# Altium footprint library SparkFun-Boards.PCBLIB: 38 footprints (part 2 of 3)
Each footprint in its own frame and in the unit in brackets; x right, y up, seen from the top. Pads: shape width x height; smd on the part's side, far side on the other; paste and mask are expansions set on the pad; w line width, h text height; cw(c..) or ccw(c..) is an arc to the next point about the centre after c.
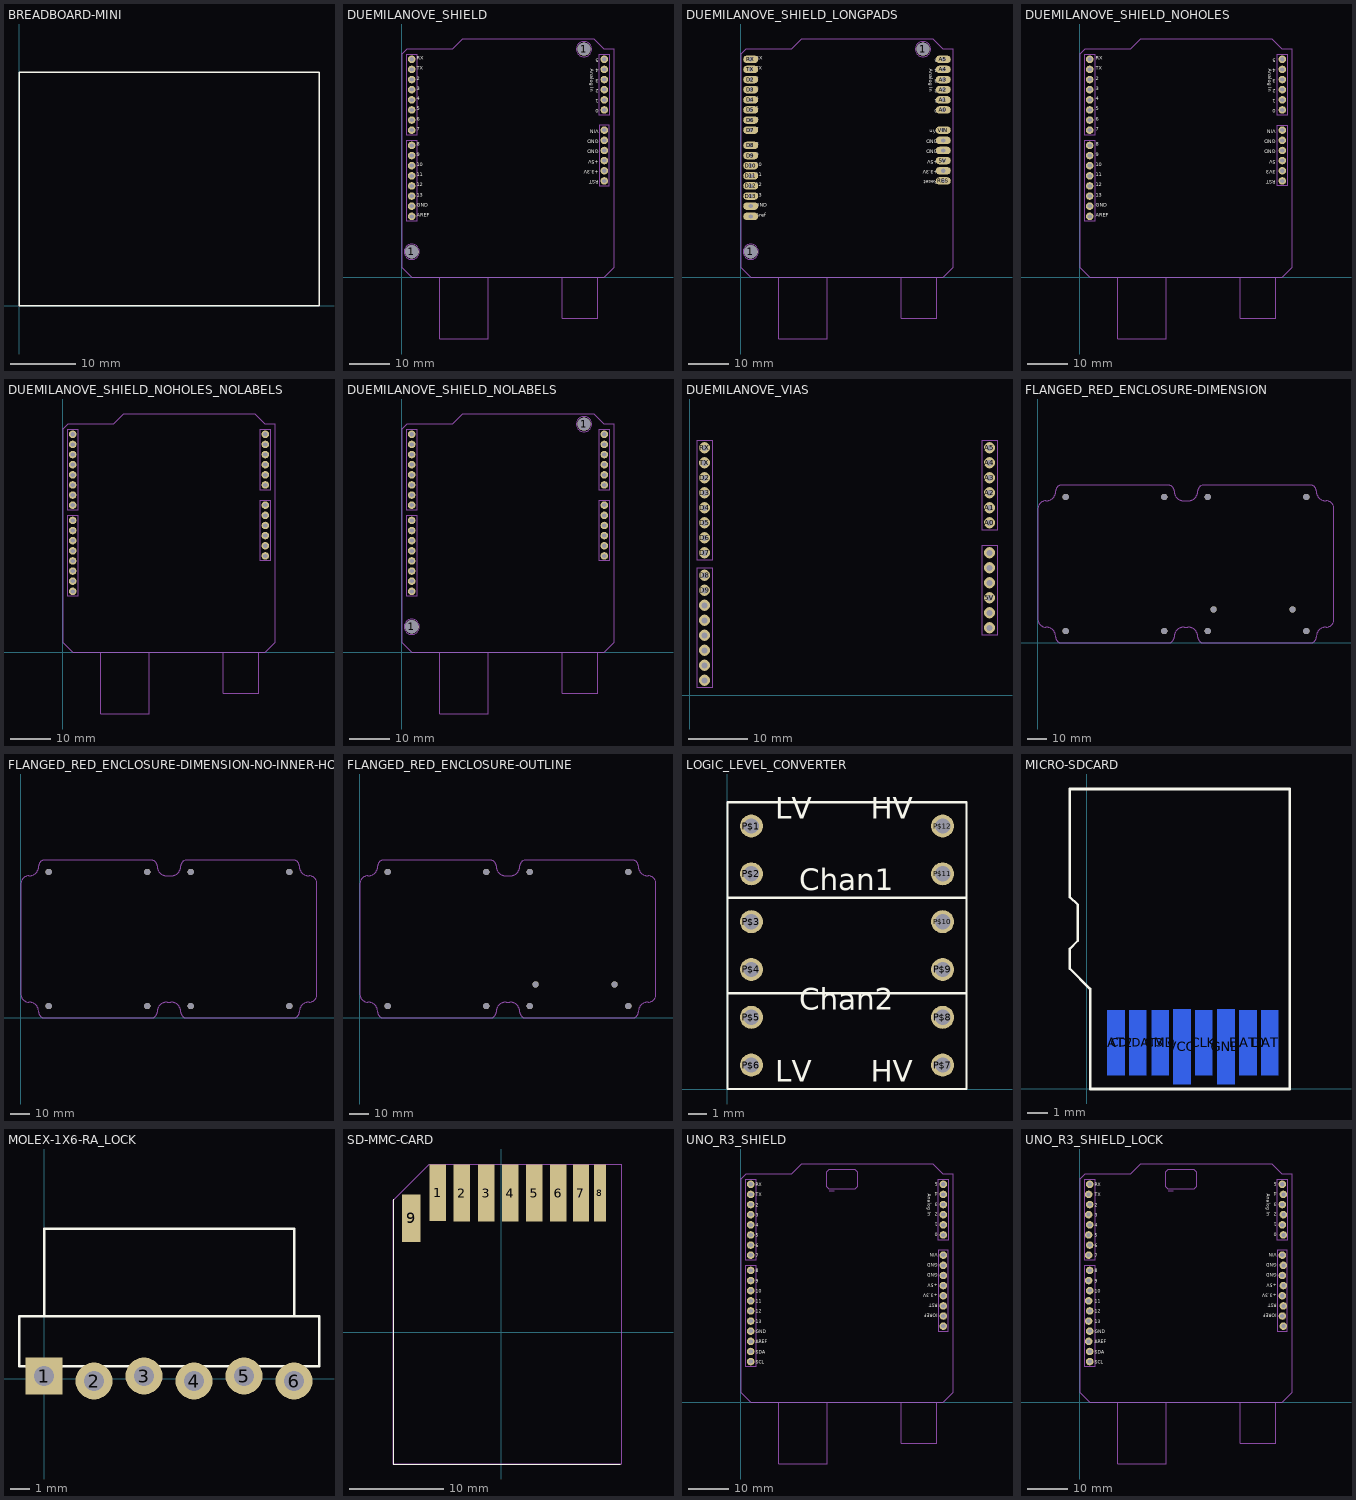
[diagram p1: the footprints below, top view; thin cyan lines are the x and y axes]

## BREADBOARD-MINI [mil]
Top Overlay:
  lines w8: 0,0 0,1400 1800,1400 1800,0 0,0

## DUEMILANOVE_SHIELD [mil]
pads (30):
  round 130 hole 130: 1(100,250) 1(1800,2250)
  round 74 hole 40: 3.3V(2000,1050) 5V(2000,1150) A0(2000,1650) A1(2000,1750) A2(2000,1850) A3(2000,1950) A4(2000,2050) A5(2000,2150) AREF(100,600) D2(100,1950) D3(100,1850) D4(100,1750) D5(100,1650) D6(100,1550) D7(100,1450) D8(100,1300) D9(100,1200) D10(100,1100) D11(100,1000) D12(100,900) D13(100,800) GND@0(2000,1250) GND@1(2000,1350) GND@2(100,700) RES(2000,950) RX(100,2150) TX(100,2050) VIN(2000,1450)
Top Overlay:
  text "GND" at 1946,1270 h62
  text "GND" at 1946,1370 h62
  text "+5V" at 1946,1170 h62
  text "RST" at 1946,970 h62
  text "VIN" at 1946,1470 h62
  text "+3.3V" at 1946,1070 h62
  text "0" at 1946,1670 h62
  text "1" at 1946,1770 h62
  text "2" at 1946,1870 h62
  text "3" at 1946,1970 h62
  text "4" at 1946,2070 h62
  text "5" at 1946,2170 h62
  text "Analog In" at 1846,2055 h62
  text "GND" at 150,680 h62
  text "13" at 150,780 h62
  text "12" at 150,880 h62
  text "11" at 150,980 h62
  text "AREF" at 150,580 h62
  text "10" at 150,1080 h62
  text "9" at 150,1180 h62
  text "8" at 150,1280 h62
  text "7" at 150,1430 h62
  text "6" at 150,1530 h62
  text "5" at 150,1630 h62
  text "4" at 150,1730 h62
  text "3" at 150,1830 h62
  text "2" at 150,1930 h62
  text "TX" at 150,2030 h62
  text "RX" at 150,2130 h62
Mechanical 8:
  circle w5: c100,250 r75
  circle w5: c1800,2250 r75
Mechanical 9:
  circle w5: c100,250 r75
  circle w5: c1800,2250 r75
Mechanical 16:
  lines w5: 50,550 150,550 150,1350 50,1350 50,550 ; 50,1400 150,1400 150,2200 50,2200 50,1400 ; 1950,900 2050,900 2050,1500 1950,1500 1950,900 ; 1950,1600 2050,1600 2050,2200 1950,2200 1950,1600
  lines w10: 1583,-3.94 1583,-405.51 1938,-405.51 1938,-3.94 ; 375,0 100,0 0,100 0,2200 50,2250 500,2250 600,2350 1900,2350 2000,2250 2100,2250 2100,100 2000,0 855,0 ; 375,0 855,0 ; 375,0 375,-610.24 855,-610.24 855,0

## DUEMILANOVE_SHIELD_LONGPADS [mil]
pads (30):
  round 130 hole 130: 1(100,250) 1(1800,2250)
  oval 148x74 hole 40: 3.3V(2000,1050) 5V(2000,1150) A0(2000,1650) A1(2000,1750) A2(2000,1850) A3(2000,1950) A4(2000,2050) A5(2000,2150) AREF(100,600) D2(100,1950) D3(100,1850) D4(100,1750) D5(100,1650) D6(100,1550) D7(100,1450) D8(100,1300) D9(100,1200) D10(100,1100) D11(100,1000) D12(100,900) D13(100,800) GND@0(2000,1250) GND@1(2000,1350) GND@2(100,700) RES(2000,950) RX(100,2150) TX(100,2050) VIN(2000,1450)
Top Overlay:
  text "GND" at 1946,1270 h62
  text "GND" at 1946,1370 h62
  text "+5V" at 1946,1170 h62
  text "Reset" at 1946,970 h62
  text "Vin" at 1946,1470 h62
  text "+3.3V" at 1946,1070 h62
  text "0" at 1946,1670 h62
  text "1" at 1946,1770 h62
  text "2" at 1946,1870 h62
  text "3" at 1946,1970 h62
  text "4" at 1946,2070 h62
  text "5" at 1946,2170 h62
  text "Analog In" at 1846,2055 h62
  text "GND" at 150,680 h62
  text "13" at 150,780 h62
  text "12" at 150,880 h62
  text "11" at 150,980 h62
  text "Aref" at 150,580 h62
  text "10" at 150,1080 h62
  text "9" at 150,1180 h62
  text "8" at 150,1280 h62
  text "7" at 150,1430 h62
  text "6" at 150,1530 h62
  text "5" at 150,1630 h62
  text "4" at 150,1730 h62
  text "3" at 150,1830 h62
  text "2" at 150,1930 h62
  text "TX" at 150,2030 h62
  text "RX" at 150,2130 h62
Mechanical 8:
  circle w5: c100,250 r75
  circle w5: c1800,2250 r75
Mechanical 9:
  circle w5: c100,250 r75
  circle w5: c1800,2250 r75
Mechanical 16:
  lines w10: 1583,-3.94 1583,-405.51 1938,-405.51 1938,-3.94 ; 375,0 100,0 0,100 0,2200 50,2250 500,2250 600,2350 1900,2350 2000,2250 2100,2250 2100,100 2000,0 855,0 ; 375,0 855,0 ; 375,0 375,-610.24 855,-610.24 855,0

## DUEMILANOVE_SHIELD_NOHOLES [mil]
pads (28):
  round 74 hole 40: 3.3V(2000,1050) 5V(2000,1150) A0(2000,1650) A1(2000,1750) A2(2000,1850) A3(2000,1950) A4(2000,2050) A5(2000,2150) AREF(100,600) D2(100,1950) D3(100,1850) D4(100,1750) D5(100,1650) D6(100,1550) D7(100,1450) D8(100,1300) D9(100,1200) D10(100,1100) D11(100,1000) D12(100,900) D13(100,800) GND@0(2000,1250) GND@1(2000,1350) GND@2(100,700) RES(2000,950) RX(100,2150) TX(100,2050) VIN(2000,1450)
Top Overlay:
  text "GND" at 1935,1370 h62
  text "5V" at 1935,1170 h62
  text "RST" at 1935,970 h62
  text "VIN" at 1936,1470 h62
  text "3V3" at 1935,1070 h62
  text "0" at 1936,1670 h62
  text "1" at 1936,1770 h62
  text "2" at 1936,1870 h62
  text "3" at 1936,1970 h62
  text "4" at 1936,2070 h62
  text "5" at 1936,2170 h62
  text "Analog In" at 1846,2055 h62
  text "GND" at 160,680 h62
  text "13" at 160,780 h62
  text "12" at 160,880 h62
  text "11" at 160,980 h62
  text "AREF" at 160,580 h62
  text "10" at 160,1080 h62
  text "9" at 160,1180 h62
  text "8" at 160,1280 h62
  text "7" at 160,1430 h62
  text "6" at 160,1530 h62
  text "5" at 160,1630 h62
  text "4" at 160,1730 h62
  text "3" at 160,1830 h62
  text "2" at 160,1930 h62
  text "TX" at 160,2030 h62
  text "RX" at 160,2130 h62
  text "GND" at 1935,1270 h62
Mechanical 16:
  lines w5: 50,550 150,550 150,1350 50,1350 50,550 ; 50,1400 150,1400 150,2200 50,2200 50,1400 ; 1950,900 2050,900 2050,1500 1950,1500 1950,900 ; 1950,1600 2050,1600 2050,2200 1950,2200 1950,1600
  lines w10: 1583,-3.94 1583,-405.51 1938,-405.51 1938,-3.94 ; 375,0 100,0 0,100 0,2200 50,2250 500,2250 600,2350 1900,2350 2000,2250 2100,2250 2100,100 2000,0 855,0 ; 375,0 855,0 ; 375,0 375,-610.24 855,-610.24 855,0

## DUEMILANOVE_SHIELD_NOHOLES_NOLABELS [mil]
pads (28):
  round 74 hole 40: 3.3V(2000,1050) 5V(2000,1150) A0(2000,1650) A1(2000,1750) A2(2000,1850) A3(2000,1950) A4(2000,2050) A5(2000,2150) AREF(100,600) D2(100,1950) D3(100,1850) D4(100,1750) D5(100,1650) D6(100,1550) D7(100,1450) D8(100,1300) D9(100,1200) D10(100,1100) D11(100,1000) D12(100,900) D13(100,800) GND@0(2000,1250) GND@1(2000,1350) GND@2(100,700) RES(2000,950) RX(100,2150) TX(100,2050) VIN(2000,1450)
Mechanical 16:
  lines w5: 50,550 150,550 150,1350 50,1350 50,550 ; 50,1400 150,1400 150,2200 50,2200 50,1400 ; 1950,900 2050,900 2050,1500 1950,1500 1950,900 ; 1950,1600 2050,1600 2050,2200 1950,2200 1950,1600
  lines w10: 1583,-3.94 1583,-405.51 1938,-405.51 1938,-3.94 ; 375,0 100,0 0,100 0,2200 50,2250 500,2250 600,2350 1900,2350 2000,2250 2100,2250 2100,100 2000,0 855,0 ; 375,0 855,0 ; 375,0 375,-610.24 855,-610.24 855,0
  text "GND" at 1935,1370 h62
  text "5V" at 1935,1170 h62
  text "RST" at 1935,970 h62
  text "VIN" at 1936,1470 h62
  text "3V3" at 1935,1070 h62
  text "0" at 1936,1670 h62
  text "1" at 1936,1770 h62
  text "2" at 1936,1870 h62
  text "3" at 1936,1970 h62
  text "4" at 1936,2070 h62
  text "5" at 1936,2170 h62
  text "Analog In" at 1846,2055 h62
  text "GND" at 160,680 h62
  text "13" at 160,780 h62
  text "12" at 160,880 h62
  text "11" at 160,980 h62
  text "AREF" at 160,580 h62
  text "10" at 160,1080 h62
  text "9" at 160,1180 h62
  text "8" at 160,1280 h62
  text "7" at 160,1430 h62
  text "6" at 160,1530 h62
  text "5" at 160,1630 h62
  text "4" at 160,1730 h62
  text "3" at 160,1830 h62
  text "2" at 160,1930 h62
  text "TX" at 160,2030 h62
  text "RX" at 160,2130 h62
  text "GND" at 1935,1270 h62

## DUEMILANOVE_SHIELD_NOLABELS [mil]
pads (30):
  round 130 hole 130: 1(100,250) 1(1800,2250)
  round 74 hole 40: 3.3V(2000,1050) 5V(2000,1150) A0(2000,1650) A1(2000,1750) A2(2000,1850) A3(2000,1950) A4(2000,2050) A5(2000,2150) AREF(100,600) D2(100,1950) D3(100,1850) D4(100,1750) D5(100,1650) D6(100,1550) D7(100,1450) D8(100,1300) D9(100,1200) D10(100,1100) D11(100,1000) D12(100,900) D13(100,800) GND@0(2000,1250) GND@1(2000,1350) GND@2(100,700) RES(2000,950) RX(100,2150) TX(100,2050) VIN(2000,1450)
Mechanical 8:
  circle w5: c100,250 r75
  circle w5: c1800,2250 r75
Mechanical 9:
  circle w5: c100,250 r75
  circle w5: c1800,2250 r75
Mechanical 16:
  lines w5: 50,550 150,550 150,1350 50,1350 50,550 ; 50,1400 150,1400 150,2200 50,2200 50,1400 ; 1950,900 2050,900 2050,1500 1950,1500 1950,900 ; 1950,1600 2050,1600 2050,2200 1950,2200 1950,1600
  lines w10: 1583,-3.94 1583,-405.51 1938,-405.51 1938,-3.94 ; 375,0 100,0 0,100 0,2200 50,2250 500,2250 600,2350 1900,2350 2000,2250 2100,2250 2100,100 2000,0 855,0 ; 375,0 855,0 ; 375,0 375,-610.24 855,-610.24 855,0
  text "GND" at 1941,1270 h62
  text "GND" at 1941,1370 h62
  text "5V" at 1941,1170 h62
  text "RST" at 1941,970 h62
  text "VIN" at 1941,1470 h62
  text "3.3V" at 1941,1070 h62
  text "0" at 1941,1670 h62
  text "1" at 1941,1770 h62
  text "2" at 1941,1870 h62
  text "3" at 1941,1970 h62
  text "4" at 1941,2070 h62
  text "5" at 1941,2170 h62
  text "Analog In" at 1841,2055 h62
  text "GND" at 155,680 h62
  text "13" at 155,780 h62
  text "12" at 155,880 h62
  text "11" at 155,980 h62
  text "AREF" at 155,580 h62
  text "10" at 155,1080 h62
  text "9" at 155,1180 h62
  text "8" at 155,1280 h62
  text "7" at 155,1430 h62
  text "6" at 155,1530 h62
  text "5" at 155,1630 h62
  text "4" at 155,1730 h62
  text "3" at 155,1830 h62
  text "2" at 155,1930 h62
  text "TX" at 155,2030 h62
  text "RX" at 155,2130 h62

## DUEMILANOVE_VIAS [mil]
pads (28):
  round 74 hole 40: 3.3V(2000,550) 5V(2000,650) A0(2000,1150) A1(2000,1250) A2(2000,1350) A3(2000,1450) A4(2000,1550) A5(2000,1650) AREF(100,100) D2(100,1450) D3(100,1350) D4(100,1250) D5(100,1150) D6(100,1050) D7(100,950) D8(100,800) D9(100,700) D10(100,600) D11(100,500) D12(100,400) D13(100,300) GND@0(2000,750) GND@1(2000,850) GND@2(100,200) RES(2000,450) RX(100,1650) TX(100,1550) VIN(2000,950)
Mechanical 16:
  lines w5: 50,50 150,50 150,850 50,850 50,50 ; 50,900 150,900 150,1700 50,1700 50,900 ; 1950,400 2050,400 2050,1000 1950,1000 1950,400 ; 1950,1100 2050,1100 2050,1700 1950,1700 1950,1100
  text "GND" at 1958,770 h62
  text "GND" at 1958,870 h62
  text "+5V" at 1958,670 h62
  text "Reset" at 1958,470 h62
  text "Vin" at 1958,970 h62
  text "+3.3V" at 1958,570 h62
  text "0" at 1958,1170 h62
  text "1" at 1958,1270 h62
  text "2" at 1958,1370 h62
  text "3" at 1958,1470 h62
  text "4" at 1958,1570 h62
  text "5" at 1958,1670 h62
  text "Analog In" at 1858,1555 h62
  text "GND" at 150,180 h62
  text "13" at 150,280 h62
  text "12" at 150,380 h62
  text "11" at 150,480 h62
  text "Aref" at 150,80 h62
  text "10" at 150,580 h62
  text "9" at 150,680 h62
  text "8" at 150,780 h62
  text "7" at 150,930 h62
  text "6" at 150,1030 h62
  text "5" at 150,1130 h62
  text "4" at 150,1230 h62
  text "3" at 150,1330 h62
  text "2" at 150,1430 h62
  text "TX" at 150,1530 h62
  text "RX" at 150,1630 h62
  text "PWM" at 269,480 h62
  text "PWM" at 269,580 h62
  text "PWM" at 269,680 h62
  text "PWM" at 269,1030 h62
  text "PWM" at 269,1130 h62
  text "PWM" at 269,1330 h62

## FLANGED_RED_ENCLOSURE-DIMENSION [mil]
pads (10):
  round 125 hole 125: 1(552,237) 1(552,2914) 1(2520,237) 1(2520,2914) 1(3386,237) 1(3386,2914) 1(3504,670) 1(5079,670) 1(5355,237) 1(5355,2914)
Mechanical 13:
  lines w5: 0,473 0,2678 cw(c157.5,2677.5) 158,2835 ccw(c158,3032) 355,3032 cw(c473,3032) 473,3150 2599,3150 cw(c2599,3032) 2717,3032 ccw(c2914,3032) 2914,2835 2993,2835 ccw(c2992.5,3031.5) 3189,3032 cw(c3307.5,3031.5) 3308,3150 5434,3150 cw(c5434,3032) 5552,3032 ccw(c5749,3032) 5749,2835 cw(c5749,2678) 5906,2678 5906,473 cw(c5748.5,472.5) 5749,315 ccw(c5748.5,118.5) 5552,119 cw(c5433.5,118.5) 5434,0 3308,0 cw(c3308,119) 3189,119 ccw(c2993,119) 2993,315 2914,315 ccw(c2913.5,118.5) 2717,119 cw(c2598.5,118.5) 2599,0 473,0 cw(c473.5,118.5) 355,119 ccw(c158.5,118.5) 158,315 cw(c158,473) 0,473

## FLANGED_RED_ENCLOSURE-DIMENSION-NO-INNER-HOLES [mil]
pads (8):
  round 125 hole 125: 1(552,237) 1(552,2914) 1(2520,237) 1(2520,2914) 1(3386,237) 1(3386,2914) 1(5355,237) 1(5355,2914)
Mechanical 1:
  lines w8: 0,473 0,2678 cw(c157.5,2677.5) 158,2835 ccw(c158,3032) 355,3032 cw(c473,3032) 473,3150 2599,3150 cw(c2599,3032) 2717,3032 ccw(c2914,3032) 2914,2835 2993,2835 ccw(c2992.5,3031.5) 3189,3032 cw(c3307.5,3031.5) 3308,3150 5434,3150 cw(c5434,3032) 5552,3032 ccw(c5749,3032) 5749,2835 cw(c5749,2678) 5906,2678 5906,473 cw(c5748.5,472.5) 5749,315 ccw(c5748.5,118.5) 5552,119 cw(c5433.5,118.5) 5434,0 3308,0 cw(c3308,119) 3189,119 ccw(c2993,119) 2993,315 2914,315 ccw(c2913.5,118.5) 2717,119 cw(c2598.5,118.5) 2599,0 473,0 cw(c473.5,118.5) 355,119 ccw(c158.5,118.5) 158,315 cw(c158,473) 0,473

## FLANGED_RED_ENCLOSURE-OUTLINE [mil]
pads (10):
  round 125 hole 125: 1(552,237) 1(552,2914) 1(2520,237) 1(2520,2914) 1(3386,237) 1(3386,2914) 1(3504,670) 1(5079,670) 1(5355,237) 1(5355,2914)
Mechanical 1:
  lines w8: 0,473 0,2678 cw(c157.5,2677.5) 158,2835 ccw(c158,3032) 355,3032 cw(c473,3032) 473,3150 2599,3150 cw(c2599,3032) 2717,3032 ccw(c2914,3032) 2914,2835 2993,2835 ccw(c2992.5,3031.5) 3189,3032 cw(c3307.5,3031.5) 3308,3150 5434,3150 cw(c5434,3032) 5552,3032 ccw(c5749,3032) 5749,2835 cw(c5749,2678) 5906,2678 5906,473 cw(c5748.5,472.5) 5749,315 ccw(c5748.5,118.5) 5552,119 cw(c5433.5,118.5) 5434,0 3308,0 cw(c3308,119) 3189,119 ccw(c2993,119) 2993,315 2914,315 ccw(c2913.5,118.5) 2717,119 cw(c2598.5,118.5) 2599,0 473,0 cw(c473.5,118.5) 355,119 ccw(c158.5,118.5) 158,315 cw(c158,473) 0,473

## LOGIC_LEVEL_CONVERTER [mil]
pads (12):
  round 48 hole 32: P$1(50,550) P$2(50,450) P$3(50,350) P$4(50,250) P$5(50,150) P$6(50,50) P$7(450,50) P$8(450,150) P$9(450,250) P$10(450,350) P$11(450,450) P$12(450,550)
Top Overlay:
  lines w5: 0,200 0,0 500,0 500,200 ; 0,200 0,400 ; 0,200 500,200 ; 0,400 0,600 500,600 500,400 ; 0,400 500,400 ; 500,200 500,400
  text "Chan1" at 150,400 h77.5
  text "Chan2" at 150,150 h77.5
  text "LV" at 100,550 h77.5
  text "LV" at 100,0 h77.5
  text "HV" at 300,550 h77.5
  text "HV" at 300,0 h77.5

## MICRO-SDCARD [mil]
pads (8):
  rect 34x128 smd far side: CD/DAT3(101,91) CLK(231,91) CMD(145,91) DAT0(318,91) DAT1(361,91) DAT2(58,91)
  rect 34x148 smd far side: GND(275,83) VCC(188,83)
Top Overlay:
  lines w5: -33.07,237 -33.07,276 -17.32,292 -17.32,363 -33.07,378 -33.07,591 400,591 400,0 7,0 7,197 -33.07,237

## MOLEX-1X6-RA_LOCK [mil]
pads (6):
  rect 74x74 hole 40: 1(0,5)
  round 74 hole 40: 2(100,-5) 3(200,5) 4(300,-5) 5(400,5) 6(500,-5)
Top Overlay:
  lines w5: 0,125 500,125 ; 0,125 -50,125 -50,25 550,25 550,125 500,125 ; 0,125 0,300 500,300 500,125

## SD-MMC-CARD [mil]
pads (9):
  rect 69x237 smd: 1(-265.54,580) 2(-165.16,579) 3(-62.99,579) 4(37,579) 5(137,579) 6(238,579)
  rect 65x237 smd: 7(332,579)
  rect 50x237 smd: 8(411,579)
  rect 79x197 smd: 9(-375.2,474)
Top Overlay:
  lines w5: -450,553 -450,-550 495,-550
Mechanical 16:
  lines w5: -450,-550 -450,550 -300,700 500,700 500,-550 -450,-550

## UNO_R3_SHIELD [mil]
pads (32):
  round 74 hole 40: 3.3V(2000,1050) 5V(2000,1150) A0(2000,1650) A1(2000,1750) A2(2000,1850) A3(2000,1950) A4(2000,2050) A5(2000,2150) AREF(100,600) D2(100,1950) D3(100,1850) D4(100,1750) D5(100,1650) D6(100,1550) D7(100,1450) D8(100,1300) D9(100,1200) D10(100,1100) D11(100,1000) D12(100,900) D13(100,800) GND@0(2000,1250) GND@1(2000,1350) GND@2(100,700) IOREF(2000,850) NC(2000,750) RES(2000,950) RX(100,2150) SCL(100,400) SDA(100,500) TX(100,2050) VIN(2000,1450)
Top Overlay:
  text "GND" at 1946,1270 h34
  text "GND" at 1946,1370 h34
  text "+5V" at 1946,1170 h34
  text "RST" at 1946,970 h34
  text "VIN" at 1946,1470 h34
  text "+3.3V" at 1946,1070 h34
  text "0" at 1946,1670 h34
  text "1" at 1946,1770 h34
  text "2" at 1946,1870 h34
  text "3" at 1946,1970 h34
  text "4" at 1946,2070 h34
  text "5" at 1946,2170 h34
  text "Analog In" at 1846,2055 h34
  text "GND" at 150,680 h34
  text "13" at 150,780 h34
  text "12" at 150,880 h34
  text "11" at 150,980 h34
  text "AREF" at 150,580 h34
  text "10" at 150,1080 h34
  text "9" at 150,1180 h34
  text "8" at 150,1280 h34
  text "7" at 150,1430 h34
  text "6" at 150,1530 h34
  text "5" at 150,1630 h34
  text "4" at 150,1730 h34
  text "3" at 150,1830 h34
  text "2" at 150,1930 h34
  text "TX" at 150,2030 h34
  text "RX" at 150,2130 h34
  text "SDA" at 150,480 h34
  text "SCL" at 150,380 h34
  text "IOREF" at 1946,870 h34
Mechanical 16:
  lines w5: 50,350 150,350 150,1350 50,1350 50,350 ; 50,1400 150,1400 150,2200 50,2200 50,1400 ; 1950,700 2050,700 2050,1500 1950,1500 1950,700 ; 1950,1600 2050,1600 2050,2200 1950,2200 1950,1600
  lines w8: 875,2080 925,2080
  lines w10: 1583,-3.94 1583,-405.51 1938,-405.51 1938,-3.94 ; 375,0 100,0 0,100 0,2200 50,2250 500,2250 600,2350 1900,2350 2000,2250 2100,2250 2100,100 2000,0 855,0 ; 375,0 855,0 ; 375,0 375,-610.24 855,-610.24 855,0 ; 850,2125 875,2100 1125,2100 1150,2125 1150,2275 1125,2300 875,2300 850,2275 850,2125
  text "RST" at 1075,2065 h17
  text "ISP" at 980,2190 h17

## UNO_R3_SHIELD_LOCK [mil]
pads (32):
  round 74 hole 40: 3.3V(2000,1050) 5V(2010,1150) A0(2010,1650) A1(2000,1750) A2(2010,1850) A3(2000,1950) A4(2010,2050) A5(2000,2150) AREF(90,600) D2(100,1950) D3(90,1850) D4(100,1750) D5(90,1650) D6(100,1550) D7(90,1450) D8(100,1300) D9(90,1200) D10(100,1100) D11(90,1000) D12(100,900) D13(90,800) GND@0(2000,1250) GND@1(2010,1350) GND@2(100,700) IOREF(2000,850) NC(2010,750) RES(2010,950) RX(100,2150) SCL(100,400) SDA(100,500) TX(90,2050) VIN(2000,1450)
Top Overlay:
  text "GND" at 1946,1270 h34
  text "GND" at 1946,1370 h34
  text "+5V" at 1946,1170 h34
  text "RST" at 1946,970 h34
  text "VIN" at 1946,1470 h34
  text "+3.3V" at 1946,1070 h34
  text "0" at 1946,1670 h34
  text "1" at 1946,1770 h34
  text "2" at 1946,1870 h34
  text "3" at 1946,1970 h34
  text "4" at 1946,2070 h34
  text "5" at 1946,2170 h34
  text "Analog In" at 1846,2055 h34
  text "GND" at 150,680 h34
  text "13" at 150,780 h34
  text "12" at 150,880 h34
  text "11" at 150,980 h34
  text "AREF" at 150,580 h34
  text "10" at 150,1080 h34
  text "9" at 150,1180 h34
  text "8" at 150,1280 h34
  text "7" at 150,1430 h34
  text "6" at 150,1530 h34
  text "5" at 150,1630 h34
  text "4" at 150,1730 h34
  text "3" at 150,1830 h34
  text "2" at 150,1930 h34
  text "TX" at 150,2030 h34
  text "RX" at 150,2130 h34
  text "SDA" at 150,480 h34
  text "SCL" at 150,380 h34
  text "IOREF" at 1946,870 h34
Mechanical 16:
  lines w5: 50,350 150,350 150,1350 50,1350 50,350 ; 50,1400 150,1400 150,2200 50,2200 50,1400 ; 1950,700 2050,700 2050,1500 1950,1500 1950,700 ; 1950,1600 2050,1600 2050,2200 1950,2200 1950,1600
  lines w8: 875,2080 925,2080
  lines w10: 1583,-3.94 1583,-405.51 1938,-405.51 1938,-3.94 ; 375,0 100,0 0,100 0,2200 50,2250 500,2250 600,2350 1900,2350 2000,2250 2100,2250 2100,100 2000,0 855,0 ; 375,0 855,0 ; 375,0 375,-610.24 855,-610.24 855,0 ; 850,2125 875,2100 1125,2100 1150,2125 1150,2275 1125,2300 875,2300 850,2275 850,2125
  text "RST" at 1075,2065 h17
  text "ISP" at 980,2190 h17